# Altium footprint library JTAG Headers.PcbLib: 6 footprints
Each footprint in its own frame and in the unit in brackets; x right, y up, seen from the top. Pads: shape width x height; smd on the part's side, far side on the other; paste and mask are expansions set on the pad; w line width, h text height; cw(c..) or ccw(c..) is an arc to the next point about the centre after c.
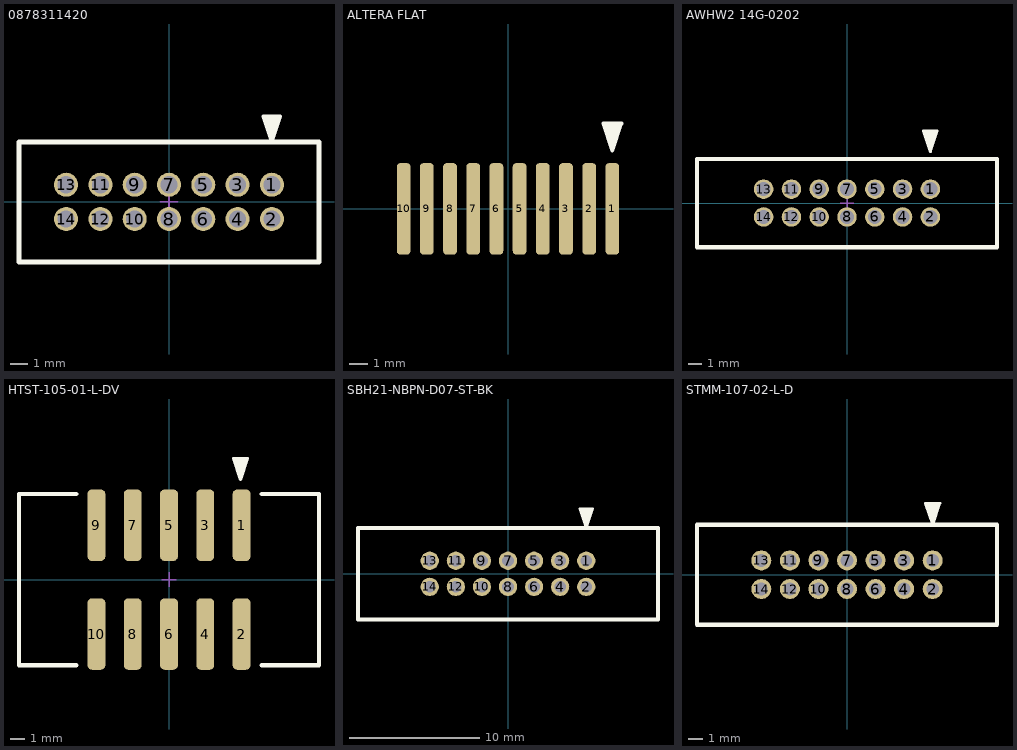
[diagram p0: the footprints below, top view; thin cyan lines are the x and y axes]

## 0878311420 [mm] "IDC_14_2mm"
pads (14):
  round 1.4 hole 1: 1(6,1) 2(6,-1) 3(4,1) 4(4,-1) 5(2,1) 6(2,-1) 7(0,1) 8(0,-1) 9(-2,1) 10(-2,-1) 11(-4,1) 12(-4,-1) 13(-6,1) 14(-6,-1)
Top Overlay:
  region: 6,3.5 5.5,5 6.5,5
  lines w0.2: 5.5,5 6.5,5 6,3.5 5.5,5
  lines w0.3: -8.75,-3.5 8.75,-3.5 8.75,3.5 -8.75,3.5 -8.75,-3.5
Mechanical 15:
  lines w0.1: -0.5,0 0.5,0 ; 0,-0.5 0,0.5
3D body "878311420.stp": height 6.45, standoff -2.45, extent -8.325,-3.15 8.325,3.15

## ALTERA FLAT [mm] "IDC_10_2.54mm"
pads (10):
  rrect50% 0.75x5 smd: 1(5.715,0) 2(4.445,0) 3(3.175,0) 4(1.905,0) 5(0.635,0) 6(-0.635,0) 7(-1.905,0) 8(-3.175,0) 9(-4.445,0) 10(-5.715,0)
Top Overlay:
  region: 5.715,3.175 5.215,4.675 6.215,4.675
  lines w0.2: 5.215,4.675 5.715,3.175 6.215,4.675 5.215,4.675

## AWHW2 14G-0202 [mm] "IDC_14_2mm"
pads (14):
  round 1.4 hole 1: 1(6,1) 2(6,-1) 3(4,1) 4(4,-1) 5(2,1) 6(2,-1) 7(0,1) 8(0,-1) 9(-2,1) 10(-2,-1) 11(-4,1) 12(-4,-1) 13(-6,1) 14(-6,-1)
Top Overlay:
  region: 6,3.7 5.5,5.2 6.5,5.2
  lines w0.2: 5.5,5.2 6.5,5.2 6,3.7 5.5,5.2
  lines w0.3: -10.795,-3.175 10.795,-3.175 10.795,3.175 -10.795,3.175 -10.795,-3.175
Mechanical 15:
  lines w0.1: -0.5,0 0.5,0 ; 0,-0.5 0,0.5
3D body "header_awhw214g-0202.stp": height 5.75, standoff -2.8, extent -10.5,-2.75 10.5,2.75

## HTST-105-01-L-DV [mm] "IDC_10_2.54mm"
pads (10):
  rrect50% 1.25x5 smd: 1(5.08,3.81) 2(5.08,-3.81) 3(2.54,3.81) 4(2.54,-3.81) 5(0,3.81) 6(0,-3.81) 7(-2.54,3.81) 8(-2.54,-3.81) 9(-5.08,3.81) 10(-5.08,-3.81)
Top Overlay:
  region: 5,7 4.5,8.5 5.5,8.5
  lines w0.2: 4.5,8.5 5,7 5.5,8.5 4.5,8.5
  lines w0.3: -6.5,-6 -10.5,-6 -10.5,6 -6.5,6 ; 6.5,-6 10.5,-6 10.5,6 6.5,6
Mechanical 15:
  lines w0.1: -0.5,0 0.5,0 ; 0,-0.5 0,0.5
3D body "HTST-105-01-L-DV.stp": height 10.19, standoff 0.03, extent -10.16,-5.588 10.16,5.588

## SBH21-NBPN-D07-ST-BK [mm] "IDC_14_2mm"
pads (14):
  round 1.4 hole 0.9: 1(6,1) 2(6,-1) 3(4,1) 4(4,-1) 5(2,1) 6(2,-1) 7(0,1) 8(0,-1) 9(-2,1) 10(-2,-1) 11(-4,1) 12(-4,-1) 13(-6,1) 14(-6,-1)
Top Overlay:
  region: 6,3.5 5.5,5 6.5,5
  lines w0.2: 5.5,5 6,3.5 6.5,5 5.5,5
  lines w0.3: -11.5,-3.5 -11.5,3.5 11.5,3.5 11.5,-3.5 -11.5,-3.5
3D body "SBH21-NBPN-D07-ST-BK.step": height 5.6, standoff -2.8, extent -10.65,-2.7 10.65,2.7

## STMM-107-02-L-D [mm] "IDC_14_2mm"
pads (14):
  round 1.4 hole 0.9: 1(6,1) 2(6,-1) 3(4,1) 4(4,-1) 5(2,1) 6(2,-1) 7(0,1) 8(0,-1) 9(-2,1) 10(-2,-1) 11(-4,1) 12(-4,-1) 13(-6,1) 14(-6,-1)
Top Overlay:
  region: 6,3.5 5.5,5 6.5,5
  lines w0.2: 5.5,5 6,3.5 6.5,5 5.5,5
  lines w0.3: -10.5,-3.5 -10.5,3.5 10.5,3.5 10.5,-3.5 -10.5,-3.5
3D body "STMM-107-02-L-D.stp": height 4.83, standoff -2.97, extent -10.081,-3.523 10.081,3.015